# EAGLE library part XC6802A42XER-G (library synapseWearV1-4)
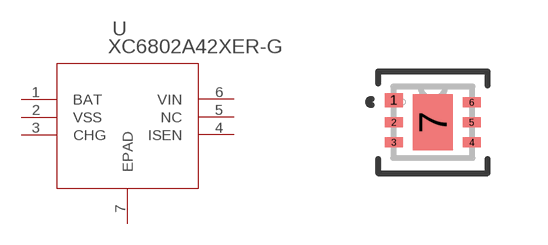
[diagram p3: symbol with the pads of USP-6C; footprint USP-6C]

Designator prefix U

## XC6802A42XER-G (MANUFACTURER_PART_NUMBER: XC6802A42XER-G; VENDOR: Torex Semiconductor)  [USP-6C]
1  BAT  pas
2  VSS  pas
3  CHG  pas
4  ISEN  pas
5  NC  nc
6  VIN  pas
7  EPAD  pas

## Footprint USP-6C (pad centres in mm)
smd 0.457 x 0.356: 1 -0.975,0.553
smd 0.45 x 0.25: 2 -0.975,0; 3 -0.975,-0.5; 4 0.975,-0.5; 5 0.975,0; 6 0.975,0.5
smd 1 x 1.4: 7 0,0